# Altium footprint library Nanjar's Connectors Library.PcbLib: 70 footprints (part 4 of 5)
Each footprint in its own frame and in the unit in brackets; x right, y up, seen from the top. Pads: shape width x height; smd on the part's side, far side on the other; paste and mask are expansions set on the pad; w line width, h text height; cw(c..) or ccw(c..) is an arc to the next point about the centre after c.
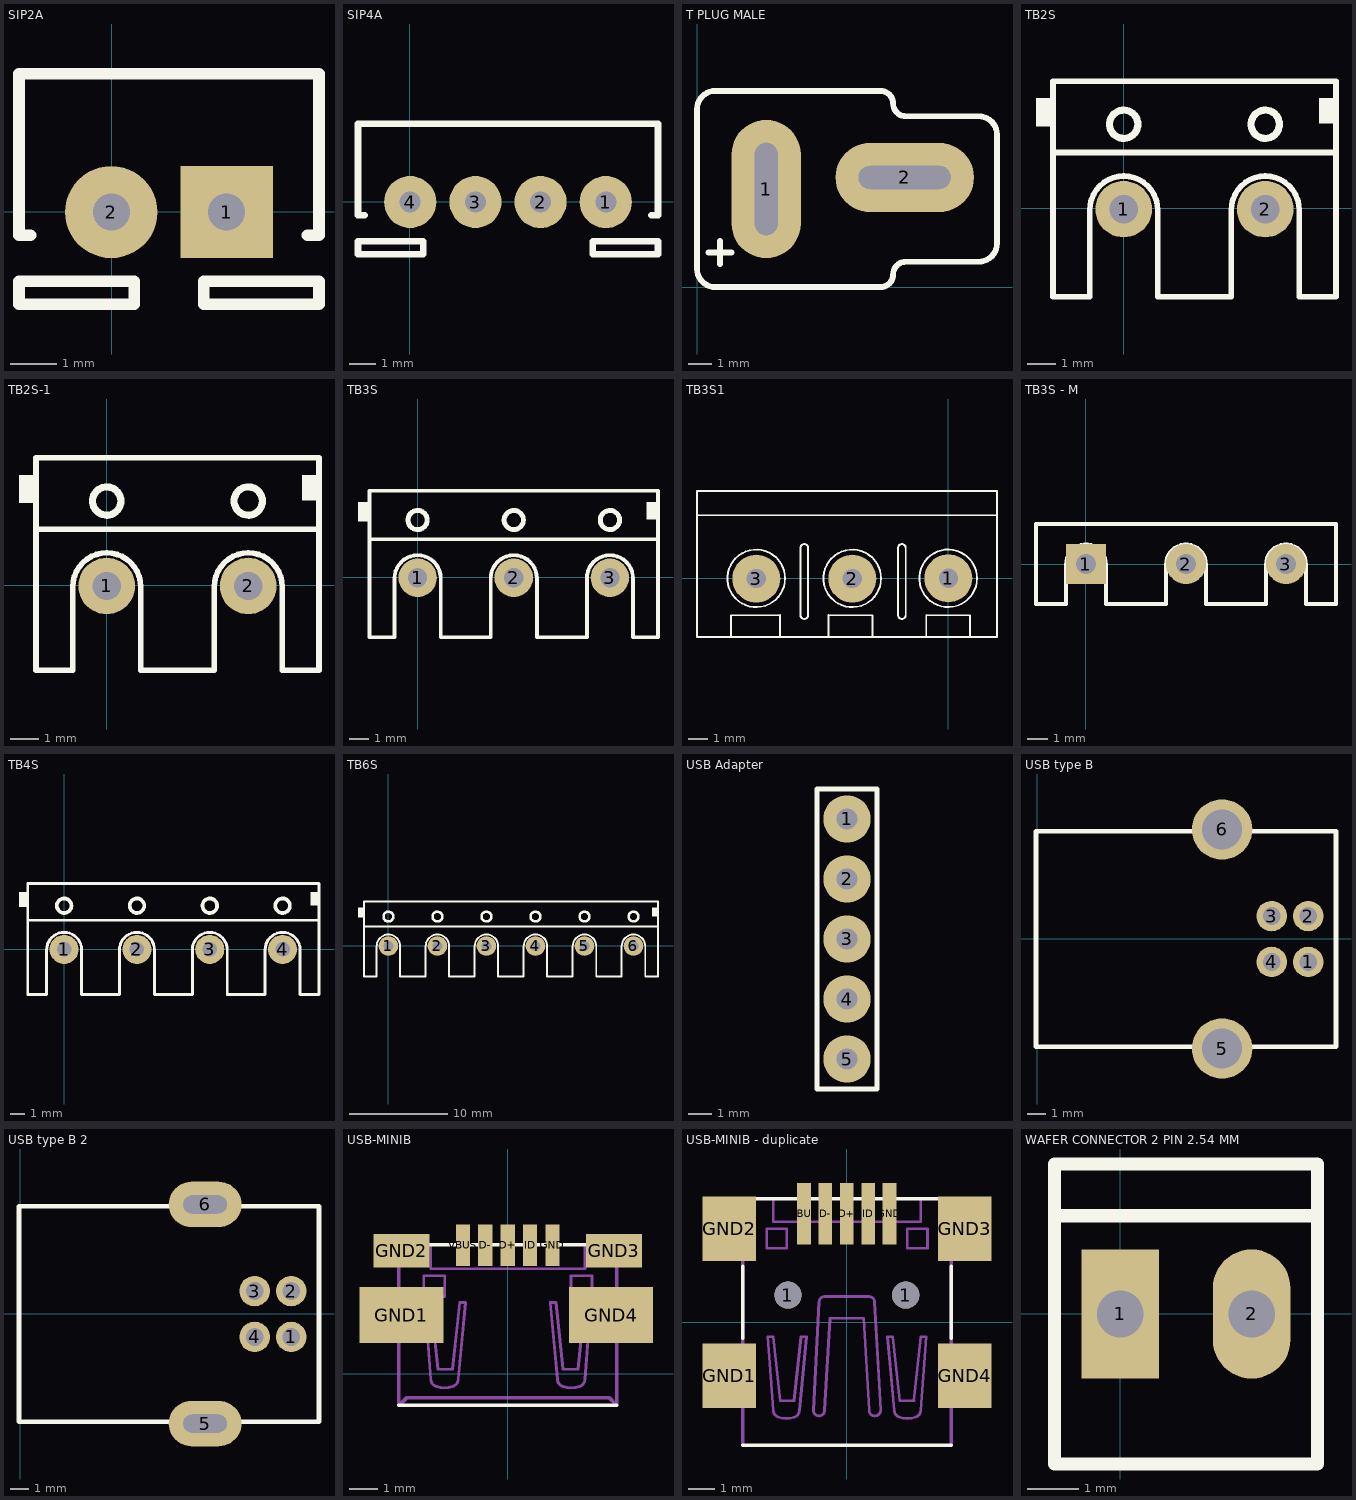
[diagram p3: the footprints below, top view; thin cyan lines are the x and y axes]

## SIP2A [mm]
pads (2):
  rect 2x2 hole 0.8: 1(2.49,-0.009)
  round 2 hole 0.8: 2(-0.01,-0.009)
Top Overlay:
  lines w0.254: -1.76,-0.509 -2.01,-0.509 -2.01,2.991 4.49,2.991 4.49,-0.509 4.24,-0.509 ; -2.01,-2.009 0.49,-2.009 0.49,-1.509 -2.01,-1.509 -2.01,-1.759 -2.01,-2.009 ; 1.99,-2.009 1.99,-1.509 4.49,-1.509 4.49,-1.759 4.49,-2.009 1.99,-2.009

## SIP4A [mm]
pads (4):
  round 2 hole 0.8: 1(7.515,-0.009) 2(5.015,-0.009) 3(2.515,-0.009) 4(0.015,-0.009)
Top Overlay:
  lines w0.254: -1.735,-0.509 -1.985,-0.509 -1.985,2.991 4.515,2.991 ; 0.515,2.991 7.015,2.991 ; 3.015,2.991 9.515,2.991 9.515,-0.509 9.265,-0.509 ; 0.515,-2.009 0.515,-1.759 0.515,-1.509 ; 0.515,-2.009 0.515,-1.509 ; 0.515,-2.009 -1.985,-2.009 -1.985,-1.759 -1.985,-1.509 0.515,-1.509 ; 7.015,-2.009 9.515,-2.009 9.515,-1.759 9.515,-1.509 7.015,-1.509 ; 7.015,-2.009 7.015,-1.509 ; 7.015,-2.009 7.015,-1.759 7.015,-1.509

## T PLUG MALE [mm]
pads (2):
  oval 3x6 hole 1 slot 4 at 90 deg: 1(3,4.25)
  oval 6x3 hole 1 slot 4 at 0 deg: 2(9,4.75)
Top Overlay:
  lines w0.254: 0.5,1.5 1.5,1.5 ; 1,1 1,2 ; 7.9,8.5 7.95,8.5 ; 7.95,8.5 cw(c7.95,7.95) 8.5,7.95 ccw(c9.05,7.95) 9.05,7.4 12.213,7.4 cw(c12.213,6.613) 13,6.613 13,1.887 cw(c12.213,1.887) 12.213,1.1 9.05,1.1 ccw(c9.05,0.55) 8.5,0.55 cw(c7.95,0.55) 7.95,0 0.787,0 cw(c0.787,0.787) 0,0.787 0,7.713 cw(c0.787,7.713) 0.787,8.5 7.95,8.5
3D body "Tplug male.step": height 13.88, standoff -4.48, extent 0,0 13,8.5

## TB2S [mm]
pads (2):
  round 2 hole 1: 1(0,-0.025) 2(5,-0.025)
Top Overlay:
  circle w0.254: c0,2.975 r0.5
  circle w0.254: c5,2.975 r0.5
  rectangle: 6.9,3 7.5,3.9
  rectangle: -3.1,2.9 -2.5,3.9
  lines w0.2: -2.5,1.975 7.5,1.975 ; -1.2,-0.056 cw(c0,-0.056) 1.2,-0.056 ; -1.2,-0.05 -1.2,-3.125 -2.5,-3.125 -2.5,4.5 7.5,4.5 7.5,-3.125 6.2,-3.125 6.2,-0.05 ; 1.2,-0.05 1.2,-3.125 3.8,-3.125 3.8,-0.05 ; 3.8,-0.056 cw(c5,-0.056) 6.2,-0.056
3D body "DG301-5.0-02.stp": height 10.02, standoff -4.38, extent -3.1,-3.125 7.5,4.475

## TB2S-1 [mm]
pads (2):
  round 2 hole 1: 1(0,-0.025) 2(5,-0.025)
Top Overlay:
  circle w0.254: c5,2.975 r0.5
  circle w0.254: c0,2.975 r0.5
  rectangle: -3.1,2.9 -2.5,3.9
  rectangle: 6.9,3 7.5,3.9
  lines w0.2: -2.5,1.975 7.5,1.975 ; -1.2,-0.056 cw(c0,-0.056) 1.2,-0.056 ; -1.2,-0.05 -1.2,-3 -2.5,-3 -2.5,4.5 7.5,4.5 7.5,-3 6.2,-3 6.2,-0.05 ; 1.2,-0.05 1.2,-3 3.8,-3 3.8,-0.05 ; 3.8,-0.056 cw(c5,-0.056) 6.2,-0.056

## TB3S [mm]
pads (3):
  round 2 hole 1: 1(0,-0.025) 2(5,-0.025) 3(10,-0.025)
Top Overlay:
  circle w0.254: c10,2.975 r0.5
  circle w0.254: c5,2.975 r0.5
  circle w0.254: c0,2.975 r0.5
  rectangle: 11.9,3 12.5,3.9
  rectangle: -3.1,2.9 -2.5,3.9
  lines w0.2: -2.5,1.975 7.5,1.975 12.5,1.975 ; -1.2,-0.056 cw(c0,-0.056) 1.2,-0.056 ; -1.2,-0.05 -1.2,-3.125 -2.5,-3.125 -2.5,4.5 7.5,4.5 12.5,4.5 12.5,-3.125 11.2,-3.125 11.2,-0.05 ; 1.2,-0.05 1.2,-3.125 3.8,-3.125 3.8,-0.05 ; 3.8,-0.056 cw(c5,-0.056) 6.2,-0.056 ; 6.2,-0.05 6.2,-3.125 8.8,-3.125 8.8,-0.05 ; 8.8,-0.056 cw(c10,-0.056) 11.2,-0.056
3D body "User Library-Terminal-Screw-3A-3way.step": height 10, standoff -3, extent -3.1,-3.038 12.5,4.562

## TB3S1 [mm]
pads (3):
  round 2.5 hole 1: 1(0,0) 2(-5,-0.015) 3(-10,-0.015)
Top Overlay:
  circle w0.1: c-10.004,-0.002 r1.5
  circle w0.1: c-5.004,-0.002 r1.5
  circle w0.1: c-0.008,0 r1.5
  lines w0.1: -13.088,3.287 2.533,3.268 ; -11.31,-3.063 -11.31,-1.92 -8.77,-1.915 -8.77,-3.063 ; -10.304,-0.002 -10.604,-0.202 -10.404,-0.502 -10.104,-0.302 ; -10.004,0.198 -9.704,0.398 -9.504,0.098 -9.804,-0.102 ; -6.23,-3.063 -6.23,-1.915 -3.944,-1.92 -3.944,-3.063 ; -5.304,-0.002 -5.604,-0.202 -5.404,-0.502 -5.104,-0.302 ; -5.004,0.198 -4.704,0.398 -4.504,0.098 -4.804,-0.102 ; -1.15,-3.063 -1.15,-1.915 1.136,-1.92 1.136,-3.063 ; -13.088,-3.063 2.533,-3.063 2.533,4.557 -13.088,4.557 -13.088,-3.063 ; -7.7,-1.915 ccw(c-7.5,-1.915) -7.5,-2.115 ccw(c-7.5,-1.915) -7.3,-1.915 -7.3,1.585 ccw(c-7.5,1.585) -7.5,1.785 ccw(c-7.5,1.585) -7.7,1.585 -7.7,-1.915 ; -2.62,-1.915 ccw(c-2.42,-1.915) -2.42,-2.115 ccw(c-2.42,-1.915) -2.22,-1.915 -2.22,1.585 ccw(c-2.42,1.585) -2.42,1.785 ccw(c-2.42,1.585) -2.62,1.585 -2.62,-1.915
3D body "User Library-Terminal-Screw-3A-3way.step": height 10, standoff -3, extent -13.1,-3.053 2.5,4.547

## TB3S - M [mm]
pads (3):
  rect 2x2 hole 1: 1(0,0)
  round 2 hole 1: 2(5,0) 3(10,0)
Top Overlay:
  lines w0.2: 2.5,2 12.5,2 12.5,-2 11,-2 11,-0.031 ccw(c10,-0.031) 9,-0.031 9,-2 6,-2 ; 7.5,2 -2.5,2 -2.5,-2 -1,-2 -1,-0.031 cw(c0,-0.031) 1,-0.031 1,-2 4,-2 ; 4,-2 4,-0.031 ; 4,-2 4,-0.031 ; 4,-0.031 cw(c5,-0.031) 6,-0.031 ; 4,-0.031 cw(c5,-0.031) 6,-0.031 ; 6,-2 6,-0.031 ; 6,-2 6,-0.031

## TB4S [mm]
pads (4):
  round 2 hole 1: 1(0,-0.025) 2(5,-0.025) 3(10,-0.025) 4(15,-0.025)
Top Overlay:
  circle w0.254: c10,2.975 r0.5
  circle w0.254: c15,2.975 r0.5
  circle w0.254: c5,2.975 r0.5
  circle w0.254: c0,2.975 r0.5
  rectangle: 16.9,3 17.5,3.9
  rectangle: -3.1,2.9 -2.5,3.9
  lines w0.2: -2.5,1.975 7.5,1.975 17.5,1.975 ; -1.2,-0.056 cw(c0,-0.056) 1.2,-0.056 ; -1.2,-0.05 -1.2,-3.125 -2.5,-3.125 -2.5,4.5 7.5,4.5 17.5,4.5 17.5,-3.125 16.2,-3.125 16.2,-0.05 ; 1.2,-0.05 1.2,-3.125 3.8,-3.125 3.8,-0.05 ; 3.8,-0.056 cw(c5,-0.056) 6.2,-0.056 ; 6.2,-0.05 6.2,-3.125 8.8,-3.125 8.8,-0.05 ; 8.8,-0.056 cw(c10,-0.056) 11.2,-0.056 ; 11.2,-0.05 11.2,-3.125 13.8,-3.125 13.8,-0.05 ; 13.8,-0.056 cw(c15,-0.056) 16.2,-0.056
3D body "DG301-5.0-02.stp": height 10.02, standoff -4.38, extent 6.9,-3.125 17.5,4.475
3D body "DG301-5.0-02.stp": height 10.02, standoff -4.38, extent -3.1,-3.125 7.5,4.475

## TB6S [mm]
pads (6):
  round 2 hole 1: 1(0,-0.025) 2(5,-0.025) 3(10,-0.025) 4(15,-0.025) 5(20,-0.025) 6(25,-0.025)
Top Overlay:
  circle w0.254: c20,2.975 r0.5
  circle w0.254: c25,2.975 r0.5
  circle w0.254: c10,2.975 r0.5
  circle w0.254: c15,2.975 r0.5
  circle w0.254: c5,2.975 r0.5
  circle w0.254: c0,2.975 r0.5
  rectangle: 26.9,3 27.5,3.9
  rectangle: -3.1,2.9 -2.5,3.9
  lines w0.2: -2.5,1.975 7.5,1.975 17.5,1.975 27.5,1.975 ; -1.2,-0.056 cw(c0,-0.056) 1.2,-0.056 ; -1.2,-0.05 -1.2,-3.125 -2.5,-3.125 -2.5,4.5 7.5,4.5 17.5,4.5 27.5,4.5 27.5,-3.125 26.2,-3.125 26.2,-0.05 ; 1.2,-0.05 1.2,-3.125 3.8,-3.125 3.8,-0.05 ; 3.8,-0.056 cw(c5,-0.056) 6.2,-0.056 ; 6.2,-0.05 6.2,-3.125 8.8,-3.125 8.8,-0.05 ; 8.8,-0.056 cw(c10,-0.056) 11.2,-0.056 ; 11.2,-0.05 11.2,-3.125 13.8,-3.125 13.8,-0.05 ; 13.8,-0.056 cw(c15,-0.056) 16.2,-0.056 ; 16.2,-0.05 16.2,-3.125 18.8,-3.125 18.8,-0.05 ; 18.8,-0.056 cw(c20,-0.056) 21.2,-0.056 ; 21.2,-0.05 21.2,-3.125 23.8,-3.125 23.8,-0.05 ; 23.8,-0.056 cw(c25,-0.056) 26.2,-0.056
3D body "DG301-5.0-02.stp": height 10.02, standoff -4.38, extent 16.9,-3.125 27.5,4.475
3D body "DG301-5.0-02.stp": height 10.02, standoff -4.38, extent 6.9,-3.125 17.5,4.475
3D body "DG301-5.0-02.stp": height 10.02, standoff -4.38, extent -3.1,-3.125 7.5,4.475

## USB Adapter [mm]
pads (5):
  round 2 hole 0.9: 1(50,-6.6) 2(50,-9.14) 3(50,-11.68) 4(50,-14.22) 5(50,-16.76)
Top Overlay:
  lines w0.2: 48.73,-18.03 48.73,-5.33 51.27,-5.33 51.27,-18.03 48.73,-18.03
3D body "USB Adapter.step": height 4.4, standoff 0.02, extent 48.4,-18.38 63.6,-4.98

## USB type B [mil]
pads (6):
  round 66 hole 38: 1(585.61,-49.64) 2(585.61,49.57) 3(506.61,49.57) 4(506.61,-49.64)
  round 130.5 hole 87: 5(399.61,-236.64) 6(399.61,236.58)
Top Overlay:
  lines w10: -2.36,-232.64 -2.36,232.64 645.67,232.64 645.67,-232.64 -2.36,-232.64
3D body "61400416121.stp": height 446.85, standoff -138.15, extent -2.36,-294.65 647.24,294.66

## USB type B 2 [mil]
pads (6):
  round 66 hole 38: 1(585.61,-49.64) 2(585.61,49.57) 3(506.61,49.57) 4(506.61,-49.64)
  oval 157.48x98.43 hole 94.49 slot 39.37 at 90 deg: 5(399.61,-236.64) 6(399.61,236.58)
Top Overlay:
  lines w10: -2.36,-232.64 -2.36,232.64 645.67,232.64 645.67,-232.64 -2.36,-232.64
3D body "61400416121.stp": height 446.85, standoff -138.15, extent -2.36,-294.65 647.24,294.66

## USB-MINIB [mm] "USB-MINIB"
pads (9):
  rect 0.508x1.5 smd: D+(0,4.6) D-(-0.8,4.6) GND(1.6,4.6) ID(0.8,4.6) VBUS(-1.6,4.6)
  rect 3x2 smd: GND1(-3.8,2.1) GND4(3.7,2.1)
  rect 2.007x1.2 smd: GND2(-3.8,4.4) GND3(3.8,4.4)
Top Overlay:
  lines w0.127: -3.9,-1.125 3.912,-1.125 ; -3.9,4.623 3.912,4.623 ; -3.2,4.623 -2.1,4.623 ; 2.108,4.623 3.2,4.623
Mechanical 16:
  lines w0.102: -5.055,1.38 -5.055,1.73 ccw(c-5.055,2.03) -5.055,2.33 -5.055,2.73 ; -5.035,1.371 -3.885,1.371 ; -5.035,2.749 -3.885,2.749 ; -2.75,4.521 -2.75,3.759 2.769,3.759 2.769,4.521 ; 3.911,1.391 5.08,1.391 ; 3.911,2.769 5.08,2.769 ; 5.08,1.41 5.08,1.81 cw(c5.08,2.11) 5.08,2.41 5.08,2.76 ; -3,2.769 -2.25,2.769 -2.25,3.505 -3,3.505 -3,2.769 ; -2.959,2.553 -2.751,2.553 -2.492,0.165 -1.973,0.165 -1.713,2.553 -1.506,2.553 -1.765,-0.199 cw(c-2.059,-0.176) -1.973,-0.458 cw(c-2.258,0.473) -2.544,-0.458 cw(c-2.458,-0.176) -2.751,-0.199 -2.959,2.553 ; 1.524,2.553 1.727,2.553 1.981,0.165 2.515,0.165 2.769,2.553 2.972,2.553 2.769,-0.199 cw(c2.477,-0.179) 2.565,-0.458 cw(c2.273,0.494) 1.981,-0.458 cw(c2.07,-0.179) 1.778,-0.198 1.524,2.553 ; 2.261,2.769 2.261,3.505 3.023,3.505 3.023,2.769 2.261,2.769
  lines w0.127: -3.9,-1.125 -3.9,4.625 ; -3.875,-1.1 -3.85,-1.1 -3.6,-0.85 3.625,-0.85 ; 3.575,-0.85 3.625,-0.85 ; 3.9,-1.125 3.625,-0.85 ; 3.912,-1.1 3.912,4.625

## USB-MINIB - duplicate [mil] "USB-MINIB"
pads (11):
  round 40 hole 40: 1(-86.61,40) 1(87,40)
  rect 20x91 smd: D+(0,160) D-(-31.5,160) GND(63,160) ID(32,160) VBUS(-62.99,160)
  rect 79x95 smd: GND1(-173.23,-78.74) GND2(-173.23,138) GND3(174,138) GND4(174,-78.74)
Top Overlay:
  lines w5: -153.54,-181.1 154,-181.1 ; -153.54,-23.62 -153.54,83 ; -153.54,182 154,182 ; -125.98,182 -82.68,182 ; 83,182 126,182 ; 154,-23.62 154,83
Mechanical 16:
  lines w4: -200,-105.12 -200,-91.34 ccw(c-200,-79.53) -200,-67.72 -200,-51.97 ; -200,113 -200,127 ccw(c-200,139) -200,151 -200,167 ; -199.21,-105.49 -153.94,-105.49 ; -199.21,-51.21 -153.94,-51.21 ; -199.21,113 -153.94,113 ; -199.21,167 -153.94,167 ; -108.27,178 -108.27,148 109,148 109,178 ; -40.88,-138.04 cw(c-40.88,-129.86) -49.05,-129.86 -40.88,30 cw(c-32.33,29.44) -32.7,38 33,38 cw(c32.54,29.54) 41,30 50,-129.86 cw(c41.41,-129.45) 41,-138.04 cw(c41.09,-129.95) 33,-129.86 25,6 -24.54,6 -32.7,-129.86 cw(c-40.87,-129.86) -40.87,-138.04 ; 153,-104.69 199,-104.69 ; 153,-50.42 199,-50.42 ; 153,114 199,114 ; 153,168 199,168 199,154 ccw(c199,142) 199,130 199,115 ; 199,-103.94 199,-88.19 cw(c199,-76.38) 199,-64.57 199,-50.79 ; -118.11,109 -118.11,138 -88.58,138 -88.58,109 -118.11,109 ; -116.5,-21.54 -108.32,-21.54 -98.11,-115.56 -77.67,-115.56 -67.45,-21.54 -59.27,-21.54 -69.49,-129.86 cw(c-81.06,-128.98) -77.67,-140.08 cw(c-88.91,-103.42) -100.15,-140.08 cw(c-96.75,-128.98) -108.32,-129.86 -116.5,-21.54 ; 60,-21.54 68,-21.54 78,-115.56 99,-115.56 109,-21.54 117,-21.54 109,-129.86 cw(c97.52,-129.11) 101,-140.08 cw(c89.5,-102.58) 78,-140.08 cw(c81.48,-129.11) 70,-129.86 60,-21.54 ; 89,109 119,109 119,138 89,138 89,109
  lines w5: -153.54,-181.1 -153.54,-106.3 ; -153.54,-50.79 -153.54,111 ; -153.54,168 -153.54,182 ; 154,-181.1 154,-106.3 ; 154,-48.82 154,113 ; 154,170 154,182

## WAFER CONNECTOR 2 PIN 2.54 MM [mm]
pads (2):
  rect 1.5x2.5 hole 0.9: 1(0,0)
  oval 1.5x2.5 hole 0.9: 2(2.54,0)
Top Overlay:
  lines w0.254: 3.81,1.9 -1.27,1.9 -1.27,2.9 ; -1.27,2.9 3.81,2.9 3.81,-2.9 -1.27,-2.9 -1.27,2.9
3D body: height 11.7, standoff 0, extent 0,1.905 2.54,2.9
3D body: height 2.5, standoff 0, extent -1.27,-2.921 3.81,2.9
3D body: height 8.5, standoff -3, extent -0.35,-0.35 0.35,0.35
3D body: height 8.5, standoff -3, extent 2.19,-0.35 2.89,0.35